# EAGLE library part OPA604 (library ICs)
High performance, FET-Input, Low Distortion audio op amp.
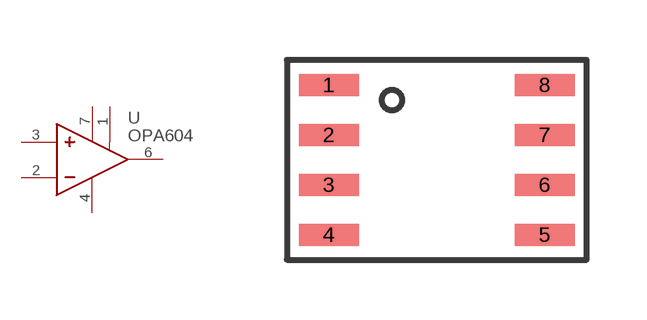
[diagram p8: symbol with the pads of SO8; footprint SO8]

Designator prefix U

## OPA604AU (FARNELL: 1212317)  [SO8]
1  SF
2  -
3  +
4  V-
6  OUT
7  V+

## Footprint SO8 (pad centres in mm)
smd 1.5 x 0.55: 1 -2.7,1.875; 2 -2.7,0.625; 3 -2.7,-0.625; 4 -2.7,-1.875; 5 2.7,-1.875; 6 2.7,-0.625; 7 2.7,0.625; 8 2.7,1.875